# EAGLE library part JTAG (library bytewerk-con)
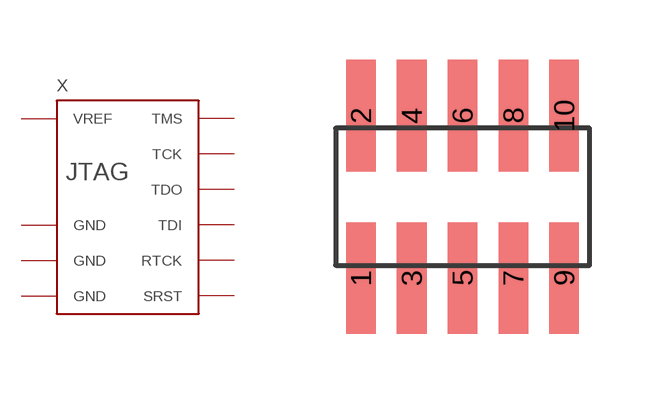
[diagram p3: symbol with the pads of FTS-105-01-X-DV; footprint FTS-105-01-X-DV]

Designator prefix X

## JTAG (MANUFACTURER: FCI; MPN: 20021121-00010C4LF; OC_DIGIKEY: 609-3695-1-ND; OC_FARNELL: 1865279; OC_MOUSER: 649-202112100010C4LF)  [FTS-105-01-X-DV]
1  VREF  out
2  TMS  in
3  GND  pwr
4  TCK  in
5  GND  pwr
6  TDO  out
7  RTCK  out
8  TDI  in
9  GND  pwr
10  SRST  in

## Footprint FTS-105-01-X-DV (pad centres in mm)
smd 0.74 x 2.79: 1 -2.54,-2.032; 2 -2.54,2.032; 3 -1.27,-2.032; 4 -1.27,2.032; 5 0,-2.032; 6 0,2.032; 7 1.27,-2.032; 8 1.27,2.032; 9 2.54,-2.032; 10 2.54,2.032